# Altium schematic symbol library PNP.SchLib: 1 symbol
Pins are listed as number, name and electrical type; pins without a type are passive.

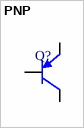
[diagram p0: symbol PNP]

## PNP
designator Q?  (value not drawn)
pins: B Base, C Collector, E Emitter